# Altium footprint library CONN - MOTOR PHASE.PcbLib: 1 footprints
Each footprint in its own frame and in the unit in brackets; x right, y up, seen from the top. Pads: shape width x height; smd on the part's side, far side on the other; paste and mask are expansions set on the pad; w line width, h text height; cw(c..) or ccw(c..) is an arc to the next point about the centre after c.
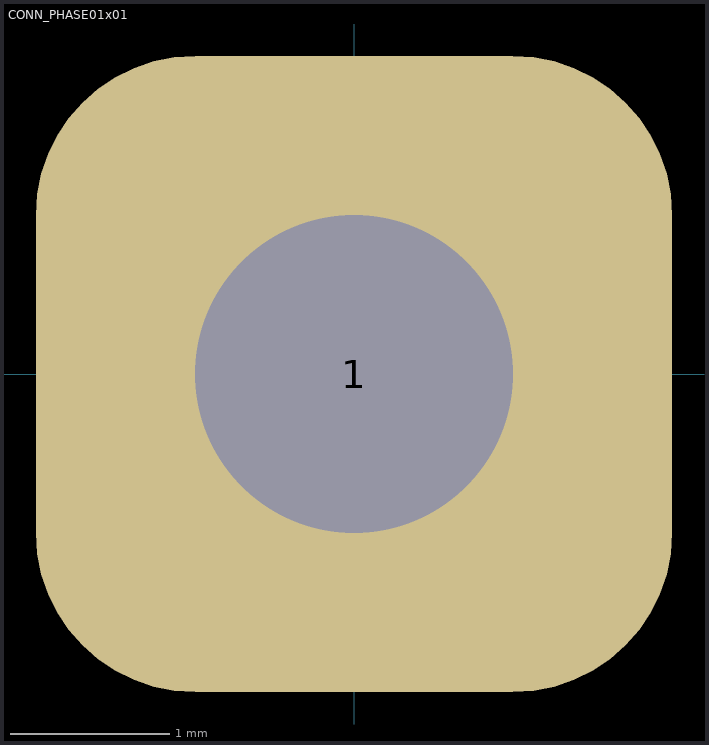
[diagram p0: the footprint, top view; thin cyan lines are the x and y axes]

## CONN_PHASE01x01 [mm] "Conector for motor2"
pads (1):
  rrect50% 4x4 hole 2 mask+0.102: 1(0,0)